# EAGLE library part MAX3491ECSD+ (library enac_jevois)
MAX3491ECSD+, Line Transceiver, RS-485, RS-422 15 Mbit/s Differential, 3.3 V, 14-Pin SOIC <https://componentsearchengine.com/Images/1/MAX3491ECSD%2B.jpg> Source: Datasheet <http://docs-europe.electrocomponents.com/webdocs/0f63/0900766b80f63332.pdf>
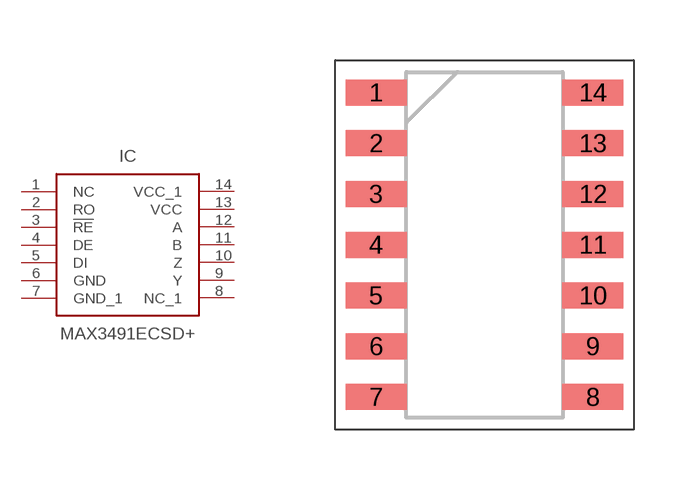
[diagram p1: symbol with the pads of SOIC127P600X175-14N; footprint SOIC127P600X175-14N]

Designator prefix IC

## MAX3491ECSD+ (Description: MAX3491ECSD+, Line Transceiver, RS-485, RS-422 15 Mbit/s Differential, 3.3 V, 14-Pin SOIC; Height: 1.75mm; Manufacturer_Name: Maxim Integrated; Manufacturer_Part_Number: MAX3491ECSD+; RS_Part_Number: 7329496; Supplier_Name: RS)  [SOIC127P600X175-14N]
1  NC  nc
2  RO  out
3  !RE  in
4  DE  in
5  DI  in
6  GND  pwr
7  GND_1  pwr
8  NC_1  pas
9  Y  out
10  Z  out
11  B  in
12  A  in
13  VCC  pwr
14  VCC_1  pwr

## Footprint SOIC127P600X175-14N (pad centres in mm)
MAX 14 SO
smd 1.525 x 0.65: 1 -2.712,3.81; 2 -2.712,2.54; 3 -2.712,1.27; 4 -2.712,0; 5 -2.712,-1.27; 6 -2.712,-2.54; 7 -2.712,-3.81; 8 2.712,-3.81; 9 2.712,-2.54; 10 2.712,-1.27; 11 2.712,0; 12 2.712,1.27; 13 2.712,2.54; 14 2.712,3.81